# Altium integrated library Sitiboard_2.IntLib: 23 symbols
Pins are listed as number, name and electrical type; pins without a type are passive.

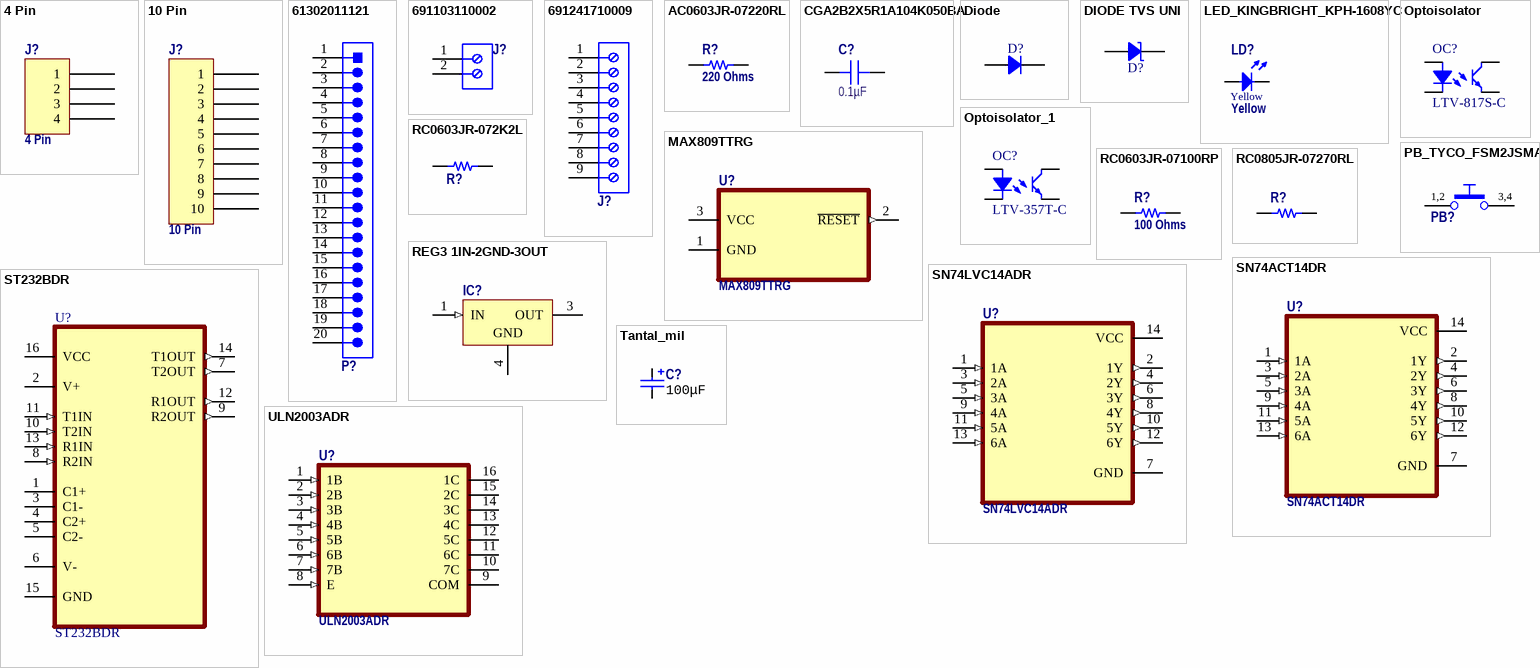
[diagram p0: symbols 4 Pin to ULN2003ADR]

## 4 Pin
designator J?
footprint CON: PLS-4 (PLS-40 4 pin header)
pins: 1, 2, 3, 4

## 10 Pin
designator J?
footprint CON: IDC-10MS (IDC-10MS 10 pin PCB-mount header)
pins: 1, 2, 3, 4, 5, 6, 7, 8, 9, 10

## 61302011121
designator P?  (value not drawn)
WR-PHD Pin Header, THT, pitch 2.54mm, Single Row, Vertical, 20p; Manufacturer: Wurth Elektronik; Pin Number: 20; Rated Current: 3A; Working Voltage: 250VAC; Withstanding Voltage: 500VAC; Contact Resistance: 20mOhm; ComponentLink1Description: Manufacturer; ComponentLink1URL: http://www.we-online.de; ComponentLink2Description: Datasheet; ComponentLink2URL: https://www.we-online.com/catalog/datasheet/61302011121.pdf; Manufacturer Part Number: 61302011121; Pitch: 2.54mm; Operating Temperature: -40 to +105degC; Mounting Technology: THT; Packaging: Bag; Gender: Pin Header; Row Number: Single; Orientation: Vertical
footprint 61302011121
pins: 1, 2, 3, 4, 5, 6, 7, 8, 9, 10, 11, 12, 13, 14, 15, 16, 17, 18, 19, 20

## 691103110002
designator J?  (value not drawn)
WR-TBL Serie 1031 Horizontal Entry Modular, Pressure Clamp, THT, pitch 3.5mm, 2p; Manufacturer: Wurth Elektronik; Modularity: Yes; PCB/Cable/Panel: PCB; Pin Number: 2; Rated Current [UL]: 10A; Working Voltage [UL]: 125VAC; ComponentLink1Description: Manufacturer; ComponentLink1URL: http://www.we-online.de; ComponentLink2URL: https://katalog.we-online.de/em/datasheet/691103110002.pdf; ComponentLink2Description: Datasheet; Mounting Technology: THT; Manufacturer Part Number: 691103110002; Packaging: Box; Operating Temperature: -40 to +105degC; Pitch: 3.5mm; Published Date: Feburary 2021; Type: Horizontal; Application: Pressure Clamp
footprint 691103110002
pins: 1, 2

## 691241710009
designator J?  (value not drawn)
WR-TBL Serie 2417 Horizontal Entry Modular, Rising Cage Clamp, THT, pitch 5mm, 9p; Manufacturer: Wurth Elektronik; Modularity: No; PCB/Cable/Panel: PCB; Pin Number: 9; Rated Current [UL]: 14A; Working Voltage [UL]: 300VAC; ComponentLink1Description: Manufacturer; ComponentLink1URL: http://www.we-online.de; ComponentLink2URL: https://katalog.we-online.de/em/datasheet/691241710009.pdf; ComponentLink2Description: Datasheet; Mounting Technology: THT; Manufacturer Part Number: 691241710009; Packaging: Box; Operating Temperature: -30 to +120degC; Pitch: 5mm; Published Date: Feburary 2021; Type: Horizontal; Application: Rising Cage Clamp
footprint 691241710009
pins: 1, 2, 3, 4, 5, 6, 7, 8, 9

## AC0603JR-07220RL
designator R?, comment 220 Ohms
RES SMD 220 OHM 5% 1/10W 0603; Part Number: AC0603JR-07220RL; Manufacturer: Yageo; Power (Watts): 0.1W, 1/10W; Temperature Coefficient: ±100ppm/°C; Value: 220 Ohms; ComponentLink1Description: Datasheet; ComponentLink1URL: https://www.yageo.com/upload/media/product/productsearch/datasheet/rchip/PYu-AC_51_RoHS_L_7.pdf; ComponentLink2Description: DigiKey Link; ComponentLink2URL: http://digikey.com/product-detail/en/yageo/AC0603JR-07220RL/YAG3652CT-ND/6006501; Composition: Thick Film; Device Package: 0603 (1608 Metric); Features: Automotive AEC-Q200, Moisture Resistant; Height - Seated (Max): 0.022" (0.55mm); LastUpdated: 02.09.2020 1:10:02; Lifecycle Status: Active; Minimum Order: 1; Number of Terminations: 2; Operating Temperature: -55°C ~ 155°C; Package / Case: 0603 (1608 Metric); Packaging: CutTape; PartId: 15757; Part Status: Active; Price: 0.10; Ratings: AEC-Q200; Resistance: 220 Ohms; Series: AC; Size / Dimension: 0.063" L x 0.031" W (1.60mm x 0.80mm); Supplier 1: DigiKey; Supplier Part Number 1: YAG3652CT-ND; Supplier Device Package: 0603; Tolerance: ±5%
footprint RES 0603_1608
pins: 1, 2

## CGA2B2X5R1A104K050BA
designator C?, comment 0.1µF
CAP CER 0.1UF 10V X5R 0402; Part Number: CGA2B2X5R1A104K050BA; Manufacturer: TDK Corporation; Tolerance: ±10%; Value: 0.1µF; Applications: Automotive; Capacitance: 0.1µF; ComponentLink1Description: Datasheet; ComponentLink1URL: https://product.tdk.com/info/en/catalog/datasheets/mlcc_automotive_general_en.pdf?ref_disty=digikey; ComponentLink2Description: DigiKey Link; ComponentLink2URL: http://digikey.com/product-detail/en/tdk-corporation/CGA2B2X5R1A104K050BA/445-12156-1-ND/3953822; Device Package: 0402 (1005 Metric); LastUpdated: 02.09.2020 1:02:21; Lifecycle Status: Active; Minimum Order: 1; Mounting Type: Surface Mount, MLCC; Operating Temperature: -55°C ~ 85°C; Package / Case: 0402 (1005 Metric); Packaging: TapeAndReel; PartId: 3289; Part Status: Active; Price: 0.01; Ratings: AEC-Q200; Series: CGA; Size / Dimension: 0.039" L x 0.020" W (1.00mm x 0.50mm); Supplier 1: DigiKey; Supplier Part Number 1: 445-12156-1-ND; Temperature Coefficient: X5R; Thickness (Max): 0.022" (0.55mm); Voltage - Rated: 10V
footprint CAP 0402_1005
pins: 1, 2

## Diode
designator D?, comment SS24FL  (value not drawn)
Rectifier Diode
footprint SOD-123W (SODFL, 2-Leads, Body 1.60x3.50mm, IPC Medium Density)
pins: 1, 2

## DIODE TVS UNI
designator D?, comment SMBJ15CA-E3/52  (value not drawn)
Rectifier Diode
footprint DO214AA SMB (Molded Diode, 2-Leads, Body 4.31x3.62mm, IPC Medium Density)
pins: 1, 2

## LED_KINGBRIGHT_KPH-1608YC
designator LD?, comment Yellow
LED Yellow 1C 2A; Part Number: LED_KINGBRIGHT_KPH-1608YC; Part Description: SMD Yellow LED, Case 1.6mmX0.8mm(0603), 0.65mm Thickness; Manufacturer: KINGBRIGHT; Manufacturer Part Number: KPH-1608YC; PressFit: No; Bonding: No; Component Kind: Standard; Component Type: Standard; Color: Yellow; Footprint: LED_KINGBRIGHT_KPH-1608YC; PackageDescription: SMT Yellow LED, Case 0603, Body L 1.6 x W 0.8mm H 0.65mm; Pin Count: 2; Mounted: Yes; Socket: No; SMD: Yes; Sense: No; ComponentHeight: 0.65mm; HelpURL: \\cern.ch\dfs\Applications\Altium\Datasheets\LED_KINGBRIGHT_KPH-1608YC.pdf; Author: CERN DEM JLC; CreateDate: 03.07.2017; LatestRevisionDate: 03.07.2017
footprint LED_KINGBRIGHT_KPH-1608YC
pins: 1 C, 2 A

## MAX809TTRG
designator U?
Supervisor Push-Pull, Totem Pole 1 Channel SOT-23-3 (TO-236); MF: ON Semiconductor; Availability: Unavailable; Package: SOT-23-3 ON Semiconductor; Price: None; SnapEDA_Link: https://www.snapeda.com/parts/MAX809TTRG/ON%20Semiconductor/view-part/47418/?ref=snap; Value: *; MP: MAX809TTRG; Check_prices: https://www.snapeda.com/parts/MAX809TTRG/ON%20Semiconductor/view-part/47418/?ref=eda
footprint SOT95P240X111-3N
pins: 1 GND, 2 ~{RESET} (out), 3 VCC (power)

## Optoisolator
designator OC?, comment LTV-817S-C
footprint LITEON LTV-817 (SOP, 4-Leads, Body 4.60x6.50mm, Pitch 2.54mm, IPC Medium Density)
pins: 1, 2, 3, 4

## Optoisolator_1
designator OC?, comment LTV-357T-C
footprint LITEON LTV-357T (SOP, 4-Leads, Body 3.85x4.4mm, Pitch 2.54mm, IPC Medium Density)
pins: 1, 2, 3, 4

## PB_TYCO_FSM2JSMA
designator PB?, comment Push Button  (value not drawn)
Push-Button Switch SPDT; Part Number: PB_TYCO_FSM2JSMA; Part Description: 12VDC 50mA SPST Tactile  Push-Button Switch; Manufacturer: TYCO ELECTRONICS; Manufacturer Part Number: FSM2JSMA or  2-1437565-7; PressFit: No; Component Kind: Standard; Component Type: Standard; Footprint: PB_TYCO_FSM2JSMA; Pin Count: 4; PackageDescription: Body 6mm x 6mm, Surface Mount Tactile Switches, TYCO ALCOSWITCH FSMJSMA Series; Family: Push Button; Mounted: Yes; Socket: No; SMD: Yes; Sense: No; Status: None; ComponentHeight: 4.59mm; HelpURL: \\cern.ch\dfs\Applications\Altium\Datasheets\PB_TYCO_FSM2JSMA.pdf; Author: CERN DEM JLC; CreateDate: 08.09.2008; LatestRevisionDate: 21.06.2012
footprint PB_TYCO_FSM2JSMA
pins: 1, 2, 3, 4
text: 1,2; 3,4

## RC0603JR-072K2L
designator R?, comment 2.2 kOhms  (value not drawn)
RES SMD 2.2K OHM 5% 1/10W 0603; Part Number: RC0603JR-072K2L; Manufacturer: Yageo; Power (Watts): 0.1W, 1/10W; Temperature Coefficient: ±100ppm/°C; Value: 2.2 kOhms; ComponentLink1Description: Datasheet; ComponentLink1URL: https://www.yageo.com/upload/media/product/productsearch/datasheet/rchip/PYu-RC_Group_51_RoHS_L_10.pdf; ComponentLink2Description: DigiKey Link; ComponentLink2URL: http://digikey.com/product-detail/en/yageo/RC0603JR-072K2L/311-2.2KGRCT-ND/729676; Composition: Thick Film; Device Package: 0603 (1608 Metric); Features: Moisture Resistant; Height - Seated (Max): 0.022" (0.55mm); LastUpdated: 02.09.2020 1:09:59; Lifecycle Status: Active; Minimum Order: 1; Number of Terminations: 2; Operating Temperature: -55°C ~ 155°C; Package / Case: 0603 (1608 Metric); Packaging: CutTape; PartId: 17075; Part Status: Active; Price: 0.10; Resistance: 2.2 kOhms; Series: RC; Size / Dimension: 0.063" L x 0.031" W (1.60mm x 0.80mm); Supplier 1: DigiKey; Supplier Part Number 1: 311-2.2KGRCT-ND; Supplier Device Package: 0603; Tolerance: ±5%
footprint RES 0603_1608
pins: 1, 2

## RC0603JR-07100RP
designator R?, comment 100 Ohms
RES SMD 100 OHM 5% 1/10W 0603; Part Number: RC0603JR-07100RP; Manufacturer: Yageo; Power (Watts): 0.1W, 1/10W; Temperature Coefficient: ±200ppm/°C; Value: 100 Ohms; ComponentLink1Description: Datasheet; ComponentLink1URL: http://www.yageo.com/NewPortal/yageodocoutput?fileName=/pdf/R-Chip/PYu-RC_51_RoHS_P_0.pdf; ComponentLink2Description: DigiKey Link; ComponentLink2URL: http://digikey.com/product-detail/en/yageo/RC0603JR-07100RP/YAG1308CT-ND/4935421; Composition: Thick Film; Device Package: 0603 (1608 Metric); Features: Moisture Resistant; Height - Seated (Max): 0.022" (0.55mm); LastUpdated: 02.09.2020 1:09:26; Lifecycle Status: Active; Minimum Order: 1; Number of Terminations: 2; Operating Temperature: -55°C ~ 155°C; Package / Case: 0603 (1608 Metric); Packaging: CutTape; PartId: 26582; Part Status: Active; Price: 0.10; Resistance: 100 Ohms; Series: RC-P Lead Free; Size / Dimension: 0.063" L x 0.031" W (1.60mm x 0.80mm); Supplier 1: DigiKey; Supplier Part Number 1: YAG1308CT-ND; Supplier Device Package: 0603; Tolerance: ±5%
footprint RES 0603_1608
pins: 1, 2

## RC0805JR-07270RL
designator R?, comment 270 Ohms  (value not drawn)
RES SMD 270 OHM 5% 1/8W 0805; Part Number: RC0805JR-07270RL; Manufacturer: Yageo; Power (Watts): 0.125W, 1/8W; Temperature Coefficient: ±100ppm/°C; Value: 270 Ohms; ComponentLink1Description: Datasheet; ComponentLink1URL: https://www.yageo.com/upload/media/product/productsearch/datasheet/rchip/PYu-RC_Group_51_RoHS_L_10.pdf; ComponentLink2Description: DigiKey Link; ComponentLink2URL: http://digikey.com/product-detail/en/yageo/RC0805JR-07270RL/311-270ARCT-ND/731238; Composition: Thick Film; Device Package: 0805 (2012 Metric); Features: Moisture Resistant; Height - Seated (Max): 0.024" (0.60mm); LastUpdated: 02.09.2020 1:14:53; Lifecycle Status: Active; Minimum Order: 1; Number of Terminations: 2; Operating Temperature: -55°C ~ 155°C; Package / Case: 0805 (2012 Metric); Packaging: CutTape; PartId: 41820; Part Status: Active; Price: 0.10; Resistance: 270 Ohms; Series: RC; Size / Dimension: 0.079" L x 0.049" W (2.00mm x 1.25mm); Supplier 1: DigiKey; Supplier Part Number 1: 311-270ARCT-ND; Supplier Device Package: 0805; Tolerance: ±5%
footprint RES 0805_2012
pins: 1, 2

## REG3 1IN-2GND-3OUT
designator IC?, comment MC7805BDTG  (value not drawn)
3-Terminal Regulator 1=IN 2=GND 3=OUT
footprint TO-252AA
pins: 1 IN (in), 3 OUT (power), 4 GND (power)

## SN74ACT14DR
designator U?
Package: None; Price: None; Value: *; MP: SN74ACT14DR; Availability: Unavailable
footprint SOIC127P600X175-14N
footprint 14-SOIC (pitch 1.27 mm)
pins: 1 1A (in), 2 1Y (out), 3 2A (in), 4 2Y (out), 5 3A (in), 6 3Y (out), 7 GND (power), 8 4Y (out), 9 4A (in), 10 5Y (out), 11 5A (in), 12 6Y (out), 13 6A (in), 14 VCC (power)

## SN74LVC14ADR
designator U?
Package: None; Price: None; Value: *; MP: SN74LVC14ADR; Availability: Unavailable
footprint SOIC127P600X175-14N
footprint 14-SOIC (pitch 1.27 mm)
pins: 1 1A (in), 2 1Y (out), 3 2A (in), 4 2Y (out), 5 3A (in), 6 3Y (out), 7 GND (power), 8 4Y (out), 9 4A (in), 10 5Y (out), 11 5A (in), 12 6Y (out), 13 6A (in), 14 VCC (power)

## ST232BDR
designator U?
2/2 Transceiver Full RS232 16-SO; MF: STMicroelectronics; SnapEDA_Link: https://www.snapeda.com/parts/ST232BDR/STMicroelectronics/view-part/87836/?ref=snap; Value: *; Price: None; Availability: Unavailable; MP: ST232BDR; Package: SOIC-16 STMicroelectronics
footprint SOIC127P600X175-16N
footprint 16-SO (pitch 1.27 mm)
pins: 1 C1+, 2 V+ (power), 3 C1-, 4 C2+, 5 C2-, 6 V- (power), 7 T2OUT (out), 8 R2IN (in), 9 R2OUT (out), 10 T2IN (in), 11 T1IN (in), 12 R1OUT (out), 13 R1IN (in), 14 T1OUT (out), 15 GND, 16 VCC (power)

## Tantal_mil
designator C?  value 100μF
Manufacturer: AVX; PartNumber: F930J107KAAAJ6; ValueManufacturerPartNumber: Tantalum capacitor, 100μF, 6.3V, ±10%, 2Ohm, case A (3216), -55...+125°C; Impedance: 2Ohm; Tolerance: ±10%; TypeDielectric: X7R; TypeCapacitor: Tantalum capacitor; Voltage: 6.3V; Package: case A (3216); HelpURL: https://www.digikey.com/product-detail/en/avx-corporation/F930J107KAAAJ6/478-12404-1-ND/9645231; Temperature: -55...+125°C
footprint CAP: TANTAL-A
footprint CAP: TANTAL-B
footprint CAP: TANTAL-C
footprint CAP: TANTAL-D
footprint CAP: TANTAL-E
pins: 1, 2

## ULN2003ADR
designator U?
50-V, 7-ch darlington transistor array, -20C to 70C 16-SOIC -40 to 70; MF: Texas Instruments; Package: SOIC-16 Texas Instruments; Availability: Unavailable; Texas_Instruments-Purchase-URL: https://snapeda.com/shop?store=Texas+Instruments&id=1118207; MP: ULN2003ADR; DigiKey-Purchase-URL: https://snapeda.com/shop?store=DigiKey&id=1118207; Value: *; Price: None; SnapEDA_Link: https://www.snapeda.com/parts/ULN2003ADR/Texas%20Instruments/view-part/1118207/?ref=snap; Mouser-Purchase-URL: https://snapeda.com/shop?store=Mouser&id=1118207
footprint SOIC127P600X175-16N
footprint 16-SO (pitch 1.27 mm)
pins: 1 1B (in), 2 2B (in), 3 3B (in), 4 4B (in), 5 5B (in), 6 6B (in), 7 7B (in), 8 E (in), 9 COM (power), 10 7C (oc), 11 6C (oc), 12 5C (oc), 13 4C (oc), 14 3C (oc), 15 2C (oc), 16 1C (oc)